# EAGLE library part LT4356 (library personal)
LT4356-1 and -2 - Surge Stopper The LT®4356 surge stopper protects loads from high voltage transients. It regulates the output during an overvoltage event, such as load dump in automobiles, by controlling the gate of an external N-channel MOSFET. The output is limited to a safe value thereby allowing the loads to continue functioning. The LT4356 also monitors the voltage drop between the VCC and SNS pins to protect against overcurrent faults.
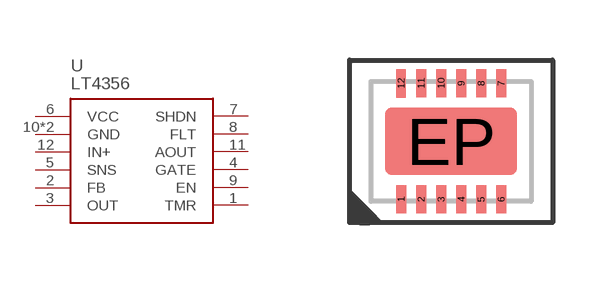
[diagram p7: symbol with the pads of DFN-12-EP; footprint DFN-12-EP]

Designator prefix U

## LT4356  [DFN-12-EP]
1  TMR  pas
2  FB  in
3  OUT  pas
4  GATE  pas
5  SNS  in
6  VCC  pwr
7  SHDN  pas
8  FLT  out
9  EN  out
10  GND  pwr
11  AOUT  pas
12  IN+  in
EP  GND  pwr

## Footprint DFN-12-EP (pad centres in mm)
smd 0.25 x 0.7: 1 -1.25,-1.45; 2 -0.75,-1.45; 3 -0.25,-1.45; 4 0.25,-1.45; 5 0.75,-1.45; 6 1.25,-1.45; 7 1.25,1.45; 8 0.75,1.45; 9 0.25,1.45; 10 -0.25,1.45; 11 -0.75,1.45; 12 -1.25,1.45
smd 3.3 x 1.7: EP 0,0